# Altium schematic symbol library X2Y_Corrected.SchLib: 1 symbol
Pins are listed as number, name and electrical type; pins without a type are passive.

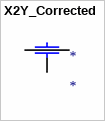
[diagram p0: symbol X2Y_Corrected]

## X2Y_Corrected
designator *
pins: 1 G1, 2 B, 3 G2